# Altium footprint library SFE-Custom-Footprints.PcbLib: 154 footprints (part 1 of 10)
Each footprint in its own frame and in the unit in brackets; x right, y up, seen from the top. Pads: shape width x height; smd on the part's side, far side on the other; paste and mask are expansions set on the pad; w line width, h text height; cw(c..) or ccw(c..) is an arc to the next point about the centre after c.
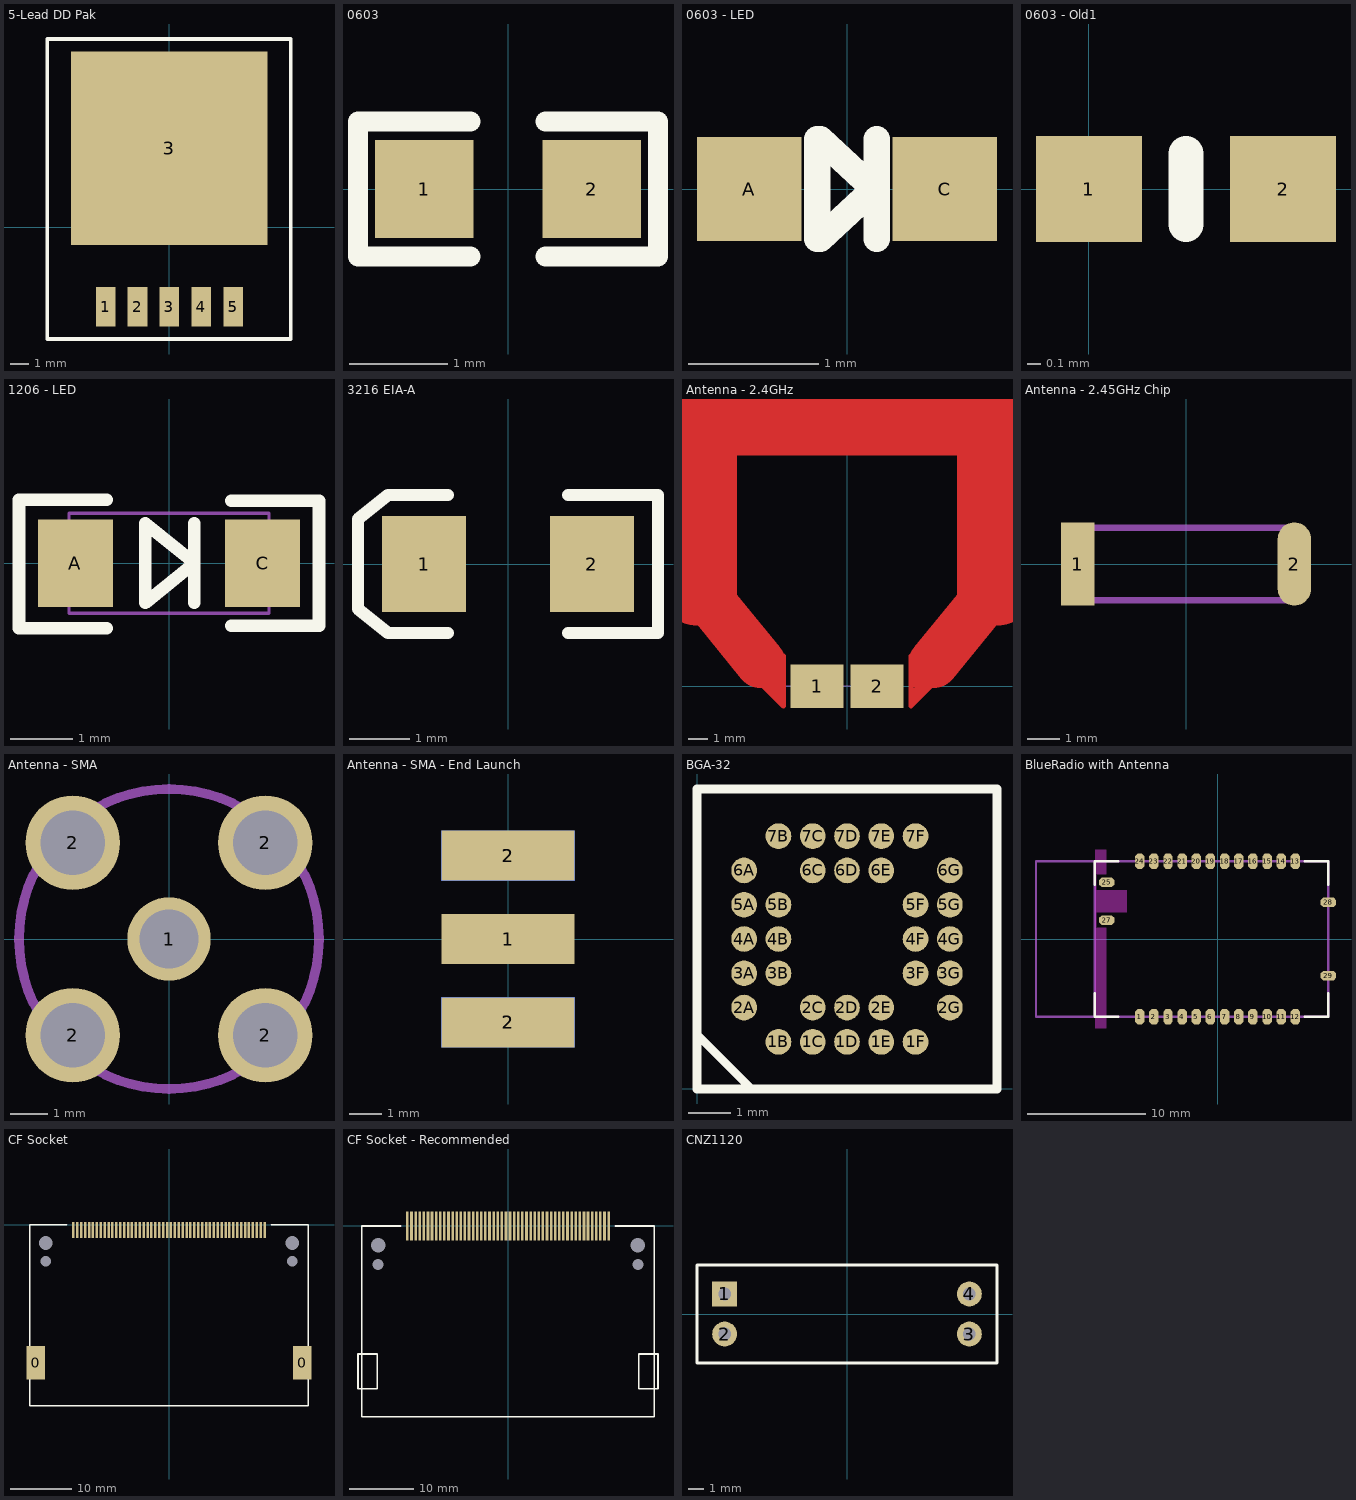
[diagram p0: the footprints below, top view; thin cyan lines are the x and y axes]

## 5-Lead DD Pak [mm]
pads (6):
  rect 1.05x2.1 smd: 1(-3.4,-4.225) 2(-1.7,-4.225) 3(0,-4.225) 4(1.7,-4.225) 5(3.4,-4.225)
  rect 10.5x10.3 smd: 3(-0.01,4.225)
Top Overlay:
  lines w0.2: -6.52,-5.95 -6.52,10.05 6.48,10.05 6.48,-5.95 -6.52,-5.95

## 0603 [mm]
pads (2):
  rect 1x1 smd: 1(-0.85,0) 2(0.85,0)
Top Overlay:
  lines w0.2: -0.381,-0.686 -1.524,-0.686 -1.524,0.686 -0.381,0.686 ; 0.381,-0.686 1.524,-0.686 1.524,0.686 0.381,0.686

## 0603 - LED [mm]
pads (2):
  rect 0.8x0.8 smd: A(-0.75,0) C(0.75,0)
Top Overlay:
  lines w0.203: -0.229,-0.381 -0.229,0.381 ; -0.203,-0.381 0.127,-0.076 ; -0.203,0.381 0.127,0.076 ; 0.229,-0.381 0.229,0.381

## 0603 - Old1 [mil]
pads (2):
  rect 30x30 smd: 1(0,0) 2(55,0)
Top Overlay:
  lines w10: 27.5,-10 27.5,10

## 1206 - LED [mm]
pads (2):
  rect 1.2x1.4 smd paste+0.2: A(-1.5,0) C(1.5,0)
Top Overlay:
  lines w0.203: -2.4,-1.041 -1,-1.041 ; -2.4,-1 -2.4,1 ; -2.4,1.016 -1,1.016 ; 0.406,-0.635 0.406,0 ; 0.406,0.635 0.406,0 ; 1,-1 2.4,-1 2.4,1 1,1 ; 0.406,0 -0.381,0.635 -0.381,-0.635 0.406,0
Mechanical 1:
  lines w0.051: -1.6,-0.8 -1.6,0.8 1.6,0.8 1.6,-0.8 -1.6,-0.8

## 3216 EIA-A [mm]
pads (2):
  rect 1.4x1.6 smd: 1(-1.4,0) 2(1.4,0)
Top Overlay:
  lines w0.203: -1,-1.15 -2,-1.15 -2.5,-0.75 -2.5,0.75 -2,1.15 -1,1.15 ; 1,-1.15 2.5,-1.15 2.5,1.15 1,1.15

## 7343 EIA-D [mil]

## Antenna - 2.4GHz [mil]
pads (2):
  rect 106.3x87 smd: 1(-60,0.05)
  rect 106.6x87 smd: 2(60,-0.05)
Top Layer:
  lines w10: -224.98,177.67 -224.98,205.65 ; -169.99,2.49 -127.5,-40 ; -127.5,7.53 -135.57,15.61 -142.84,15.61 -144.85,13.59 -144.85,11.77 -127.5,-5.58 -127.5,-14.67 -146.68,4.51 -149.9,4.51 -153.94,0.47 -153.94,-1.55 -127.5,-27.99 -127.5,-40 ; -127.5,60 -127.5,-40 ; 127.5,60 127.5,-40 127.53,-40 171.02,3.5 173.04,3.5 ; 134.94,13.84 130.78,13.84 127.5,10.56 127.5,-2.56 140.37,10.31 146.55,10.31 151.6,5.26 148.95,5.26 127.5,-16.18 127.5,-27.79 157.78,2.49 158.91,2.49 ; 225.01,178.97 225.01,204.46
  lines w100: -300,201.5 -173,46 ; 173,46 300,201.5
  lines w160: -300,201.5 -300,541.5 300,541.5 300,201.5
Mechanical 1:
  lines w2: -122.51,0.14 -112.51,0.14 ; -7.05,0.27 6.95,0.27

## Antenna - 2.45GHz Chip [mil]
pads (2):
  rect 40x100 smd: 1(-130,0)
  oval 40x100 smd: 2(130,0)
Mechanical 1:
  lines w8: -127.95,-43.31 127.95,-43.31 ; -127.95,43.31 127.95,43.31

## Antenna - SMA [mm]
pads (5):
  round 2.2 hole 1.57: 1(0,0)
  round 2.5 hole 1.7: 2(-2.54,-2.54) 2(-2.54,2.54) 2(2.54,-2.54) 2(2.54,2.54)
Mechanical 1:
  circle w0.254: c0,0 r3.96

## Antenna - SMA - End Launch [mil]
pads (5):
  rect 160x60 smd: 1(0,0) 2(0,-100) 2(0,100)
  rect 160x60 smd far side: 2(0,-100) 2(0,100)

## BGA-32 [mm]
pads (32):
  round 0.6 smd: 1B(1.9,1.1) 1C(2.7,1.1) 1D(3.5,1.1) 1E(4.3,1.1) 1F(5.1,1.1) 2A(1.1,1.9) 2C(2.7,1.9) 2D(3.5,1.9) 2E(4.3,1.9) 2G(5.9,1.9) 3A(1.1,2.7) 3B(1.9,2.7) 3F(5.1,2.7) 3G(5.9,2.7) 4A(1.1,3.5) 4B(1.9,3.5) 4F(5.1,3.5) 4G(5.9,3.5) 5A(1.1,4.3) 5B(1.9,4.3) 5F(5.1,4.3) 5G(5.9,4.3) 6A(1.1,5.1) 6C(2.7,5.1) 6D(3.5,5.1) 6E(4.3,5.1) 6G(5.9,5.1) 7B(1.9,5.9) 7C(2.7,5.9) 7D(3.5,5.9) 7E(4.3,5.9) 7F(5.1,5.9)
Top Overlay:
  lines w0.203: 0,1.27 1.27,0 ; 0,0 0,7 7,7 7,0 0,0

## BlueRadio with Antenna [mm]
pads (28):
  oct 0.8x1.3 smd: 1(-6.6,-6.6) 2(-5.4,-6.6) 3(-4.2,-6.6) 4(-3,-6.6) 5(-1.8,-6.6) 6(-0.6,-6.6) 7(0.6,-6.6) 8(1.8,-6.6) 9(3,-6.6) 10(4.2,-6.6) 11(5.4,-6.6) 12(6.6,-6.6) 13(6.6,6.6) 14(5.4,6.6) 15(4.2,6.6) 16(3,6.6) 17(1.8,6.6) 18(0.6,6.6) 19(-0.6,6.6) 20(-1.8,6.6) 21(-3,6.6) 22(-4.2,6.6) 23(-5.4,6.6) 24(-6.6,6.6)
  oct 1.3x0.8 smd: 25(-9.4,4.8) 27(-9.4,1.6) 28(9.4,3.1) 29(9.4,-3.1)
Top Overlay:
  lines w0.203: -10.402,-4.6 -10.402,-6.6 -8.402,-6.6 ; -10.402,4.6 -10.402,6.6 -8.402,6.6 ; 7.4,-6.6 9.4,-6.6 9.4,-4.6 ; 7.4,6.6 9.4,6.6 9.4,4.6
Keep-Out Layer:
  rectangle: -10.4,2.251 -7.7,4.176
  rectangle: -10.4,5.474 -9.4,7.6
  rectangle: -10.4,1 -10.281,5.415
  rectangle: -10.4,-7.6 -9.4,0.96
Mechanical 1:
  lines w0.203: -10.4,-6.6 -10.4,6.6 ; -15.4,-6.6 -15.4,6.6 9.4,6.6 9.4,-6.6 -15.4,-6.6

## CF Socket [mil]
pads (56):
  rect 118x213 smd: 0(-854.5,-886) 0(854.5,-886)
  round 0 hole 67: 0(-790.5,-236) 0(790.5,-236)
  round 0 hole 87: 0(-790.5,-118) 0(790.5,-118)
  rect 16x100 smd: 1(-612.5,-35) 2(-562.5,-35) 3(-512.5,-35) 4(-462.5,-35) 5(-412.5,-35) 6(-362.5,-35) 7(-312.5,-35) 8(-262.5,-35) 9(-212.5,-35) 10(-162.5,-35) 11(-112.5,-35) 12(-62.5,-35) 13(-12.5,-35) 14(37.5,-35) 15(87.5,-35) 16(137.5,-35) 17(187.5,-35) 18(237.5,-35) 19(287.5,-35) 20(337.5,-35) 21(387.5,-35) 22(437.5,-35) 23(487.5,-35) 24(537.5,-35) 25(587.5,-35) 26(-587.5,-35) 27(-537.5,-35) 28(-487.5,-35) 29(-437.5,-35) 30(-387.5,-35) 31(-337.5,-35) 32(-287.5,-35) 33(-237.5,-35) 34(-187.5,-35) 35(-137.5,-35) 36(-87.5,-35) 37(-37.5,-35) 38(12.5,-35) 39(62.5,-35) 40(112.5,-35) 41(162.5,-35) 42(212.5,-35) 43(262.5,-35) 44(312.5,-35) 45(362.5,-35) 46(412.5,-35) 47(462.5,-35) 48(512.5,-35) 49(562.5,-35) 50(612.5,-35)
Top Overlay:
  lines w10: -655,0 -891.5,0 -891.5,-1161 891.5,-1161 891.5,0 655,0

## CF Socket - Recommended [mil]
pads (54):
  round 0 hole 67: 0(-790.5,-236) 0(790.5,-236)
  round 0 hole 87: 0(-790.5,-118) 0(790.5,-118)
  rect 16x177 smd: 1(-612.5,0) 2(-587.5,0) 3(-562.5,0) 4(-537.5,0) 5(-512.5,0) 6(-487.5,0) 7(-462.5,0) 8(-437.5,0) 9(-412.5,0) 10(-387.5,0) 11(-362.5,0) 12(-337.5,0) 13(-312.5,0) 14(-287.5,0) 15(-262.5,0) 16(-237.5,0) 17(-212.5,0) 18(-187.5,0) 19(-162.5,0) 20(-137.5,0) 21(-112.5,0) 22(-87.5,0) 23(-62.5,0) 24(-37.5,0) 25(-12.5,0) 26(12.5,0) 27(37.5,0) 28(62.5,0) 29(87.5,0) 30(112.5,0) 31(137.5,0) 32(162.5,0) 33(187.5,0) 34(212.5,0) 35(237.5,0) 36(262.5,0) 37(287.5,0) 38(312.5,0) 39(337.5,0) 40(362.5,0) 41(387.5,0) 42(412.5,0) 43(437.5,0) 44(462.5,0) 45(487.5,0) 46(512.5,0) 47(537.5,0) 48(562.5,0) 49(587.5,0) 50(612.5,0)
Top Overlay:
  lines w10: -655,0 -891.5,0 -891.5,-1161 891.5,-1161 891.5,0 655,0 ; -913.5,-992.5 -795.5,-992.5 -795.5,-779.5 -913.5,-779.5 -913.5,-992.5 ; 795.5,-992.5 913.5,-992.5 913.5,-779.5 795.5,-779.5 795.5,-992.5

## CNZ1120 [mil]
pads (4):
  rect 62x62 hole 31.5: 1(-305.12,50)
  round 62 hole 31.5: 2(-305.12,-50) 3(305.12,-50) 4(305.12,50)
Top Overlay:
  lines w8: -374.02,-122.05 374.02,-122.05 374.02,122.05 -374.02,122.05 -374.02,-122.05
  text "." at -358,90 h80